# Altium footprint library CCD_CAM_BOARD_PCB_v3.PcbLib: 39 footprints (part 1 of 3)
Each footprint in its own frame and in the unit in brackets; x right, y up, seen from the top. Pads: shape width x height; smd on the part's side, far side on the other; paste and mask are expansions set on the pad; w line width, h text height; cw(c..) or ccw(c..) is an arc to the next point about the centre after c.
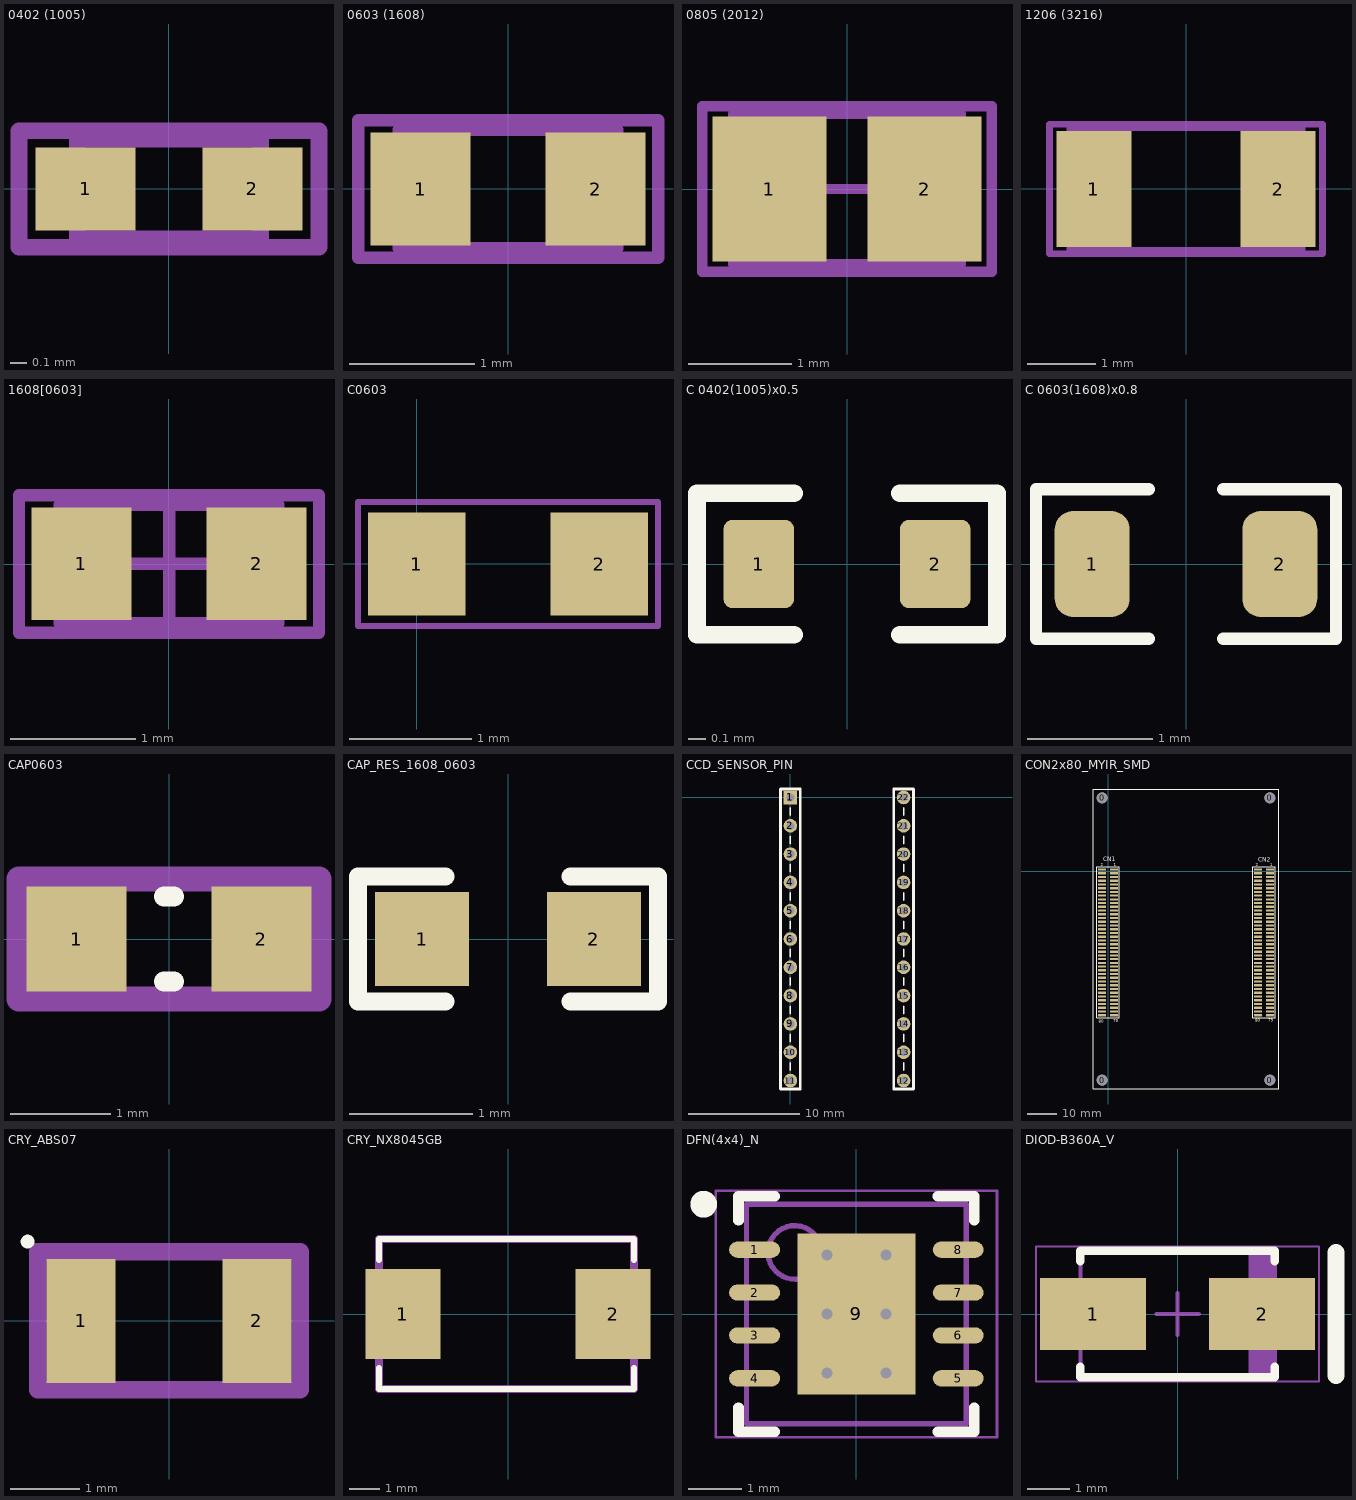
[diagram p0: the footprints below, top view; thin cyan lines are the x and y axes]

## 0402 (1005) [mm] "Chip  Body 1.0x0.5mm, IPC High Density"
height 0.35
pads (2):
  rect 0.6x0.5 smd: 1(-0.5,0) 2(0.5,0)
Mechanical 13:
  lines w0.1: -0.55,-0.3 0.55,-0.3 0.55,0.3 -0.55,0.3 -0.55,-0.3
Mechanical 15:
  lines w0.1: -0.9,-0.35 0.9,-0.35 0.9,0.35 -0.9,0.35 -0.9,-0.35
3D body: height 0.35, standoff 0, extent -0.55,-0.3 0.55,0.3

## 0603 (1608) [mm] "Chip  Body 1.6x0.8mm, IPC High Density"
height 0.45
pads (2):
  rect 0.8x0.9 smd: 1(-0.7,0) 2(0.7,0)
Mechanical 13:
  lines w0.1: -0.875,-0.475 0.875,-0.475 0.875,0.475 -0.875,0.475 -0.875,-0.475
Mechanical 15:
  lines w0.1: -1.2,-0.55 1.2,-0.55 1.2,0.55 -1.2,0.55 -1.2,-0.55
3D body: height 0.45, standoff 0, extent -0.887,-0.475 0.888,0.475

## 0805 (2012) [mm] "Chip, Body 2.0x1.3mm, IPC High Density"
height 0.45
pads (2):
  rect 1.1x1.4 smd: 1(-0.75,0) 2(0.75,0)
Mechanical 13:
  lines w0.1: -1.1,-0.725 1.1,-0.725 1.1,0.725 -1.1,0.725 -1.1,-0.725
Mechanical 15:
  lines w0.1: -0.5,0 0.5,0 ; -1.4,-0.8 1.4,-0.8 1.4,0.8 -1.4,0.8 -1.4,-0.8
3D body: height 0.45, standoff 0, extent -1.1,-0.725 1.1,0.725

## 1206 (3216) [mm] "Chip Capacitor, Body 3.2x1.6mm, IPC High Density"
height 0.55
pads (2):
  rect 1.1x1.7 smd: 1(-1.35,0) 2(1.35,0)
Mechanical 13:
  lines w0.1: -1.7,-0.9 -1.7,0.9 1.7,0.9 1.7,-0.9 -1.7,-0.9
Mechanical 15:
  lines w0.1: -2,-0.95 -2,0.95 2,0.95 2,-0.95 -2,-0.95
3D body: height 0.45, standoff 0, extent -1.7,-0.9 1.7,0.9

## 1608[0603] [mm] "Chip Capacitor, Body 1.6x0.8mm, IPC High Density"
height 1.3
pads (2):
  rect 0.8x0.9 smd: 1(-0.7,0) 2(0.7,0)
Mechanical 13:
  lines w0.1: -0.875,-0.475 0.875,-0.475 0.875,0.475 -0.875,0.475 -0.875,-0.475
Mechanical 15:
  lines w0.1: -0.475,0 0.475,0 ; 0,-0.475 0,0.475 ; -1.2,-0.55 1.2,-0.55 1.2,0.55 -1.2,0.55 -1.2,-0.55
3D body: height 1.3, standoff 0, extent -0.875,-0.475 0.875,0.475

## C0603 [mm]
height 0.9
pads (2):
  rect 0.8x0.85 smd: 1(0,0) 2(1.5,0)
Mechanical 13:
  lines w0.05: -0.483,-0.508 -0.483,0.508 1.981,0.508 1.981,-0.508 -0.483,-0.508
3D body "CAPC-0603-T0.9-BN.stp": height 0.9, standoff 0, extent -0.088,-0.45 1.612,0.45

## C 0402(1005)x0.5 [mm]
height 0.5
pads (2):
  rrect25% 0.4x0.5 smd mask+0.102: 1(-0.5,0) 2(0.5,0)
Top Overlay:
  lines w0.1: -0.3,-0.4 -0.85,-0.4 -0.85,0.4 -0.3,0.4 ; 0.3,-0.4 0.85,-0.4 0.85,0.4 0.3,0.4
3D body "Cap 0402(1005)x50N.STEP": height 0.51, standoff 0, extent -0.5,-0.25 0.5,0.25

## C 0603(1608)x0.8 [mm]
height 0.8
pads (2):
  rrect50% 0.6x0.85 smd: 1(-0.75,0) 2(0.75,0)
Top Overlay:
  lines w0.1: -0.3,-0.6 -1.2,-0.6 -1.2,0.6 -0.3,0.6 ; 0.3,-0.6 1.2,-0.6 1.2,0.6 0.3,0.6
3D body "Cap 0603(1608)x80N.STEP": height 0.81, standoff 0, extent -0.8,-0.4 0.8,0.4

## CAP0603 [mm] "CAPACITOR 0603"
height 0.8
pads (2):
  rect 1x1.05 smd: 1(-0.925,0) 2(0.925,0)
Top Overlay:
  lines w0.2: -0.05,-0.425 0.05,-0.425 ; -0.05,0.425 0.05,0.425
Top Designator:
  lines w0.254: -1.5,-0.6 1.5,-0.6 1.5,0.6 -1.5,0.6 -1.5,-0.6
  text "'.Designator'" at -4.317,-0.317 h0.76
3D body "CAP0603.step": height 0.8, standoff 0, extent -0.8,-0.4 0.8,0.4

## CAP_RES_1608_0603 [mil]
height 15.75
pads (2):
  rect 30x30 smd: 1(-27.5,0) 2(27.5,0)
Top Overlay:
  lines w5.91: -20,-20 -48,-20 -48,20 -20,20 ; 20,-20 48,-20 48,20 20,20

## CCD_SENSOR_PIN [mil]
height 389.76
pads (22):
  rect 48x48 hole 28 mask+0: 1(0,0)
  round 48 hole 28 mask+0: 2(0,-100) 3(0,-200) 4(0,-300) 5(0,-400) 6(0,-500) 7(0,-600) 8(0,-700) 9(0,-800) 10(0,-900) 11(0,-1000) 12(400,-1000) 13(400,-900) 14(400,-800) 15(400,-700) 16(400,-600) 17(400,-500) 18(400,-400) 19(400,-300) 20(400,-200) 21(400,-100) 22(400,0)
Top Overlay:
  lines w6: -1,-962.91 -1,-937.09 ; -1,-862.91 -1,-837.09 ; -1,-762.91 -1,-737.09 ; -1,-662.91 -1,-637.09 ; -1,-562.91 -1,-537.09 ; -1,-462.91 -1,-437.09 ; -1,-362.91 -1,-337.09 ; -1,-262.91 -1,-237.09 ; -1,-162.91 -1,-137.09 ; -1,-62.91 -1,-37.1 ; 401,-962.91 401,-937.09 ; 401,-862.91 401,-837.09 ; 401,-762.91 401,-737.09 ; 401,-662.91 401,-637.09 ; 401,-562.91 401,-537.09 ; 401,-462.91 401,-437.09 ; 401,-362.91 401,-337.09 ; 401,-262.91 401,-237.09 ; 401,-162.91 401,-137.09 ; 401,-62.91 401,-37.09
  lines w10: -35,-1030 -35,30 35,30 35,-1030 -35,-1030 ; 365,-1030 435,-1030 435,30 365,30 365,-1030
Mechanical 13:
  lines w1: -14,-1014 4,-1014 4,-986 -14,-986 -14,-1014 ; -14,-914 4,-914 4,-886 -14,-886 -14,-914 ; -14,-814 4,-814 4,-786 -14,-786 -14,-814 ; -14,-714 4,-714 4,-686 -14,-686 -14,-714 ; -14,-614 4,-614 4,-586 -14,-586 -14,-614 ; -14,-514 4,-514 4,-486 -14,-486 -14,-514 ; -14,-414 4,-414 4,-386 -14,-386 -14,-414 ; -14,-314 4,-314 4,-286 -14,-286 -14,-314 ; -14,-214 4,-214 4,-186 -14,-186 -14,-214 ; -14,-114 4,-114 4,-86 -14,-86 -14,-114 ; -14,-14 4,-14 4,14 -14,14 -14,-14 ; 396,-1014 414,-1014 414,-986 396,-986 396,-1014 ; 396,-914 414,-914 414,-886 396,-886 396,-914 ; 396,-814 414,-814 414,-786 396,-786 396,-814 ; 396,-714 414,-714 414,-686 396,-686 396,-714 ; 396,-614 414,-614 414,-586 396,-586 396,-614 ; 396,-514 414,-514 414,-486 396,-486 396,-514 ; 396,-414 414,-414 414,-386 396,-386 396,-414 ; 396,-314 414,-314 414,-286 396,-286 396,-314 ; 396,-214 414,-214 414,-186 396,-186 396,-214 ; 396,-114 414,-114 414,-86 396,-86 396,-114 ; 396,-14 414,-14 414,14 396,14 396,-14
3D body "SL-111-G-11.stp": height 131.15, standoff -108.85, extent 350,-1050 450,50
3D body "SL-111-G-11.stp": height 131.15, standoff -108.85, extent -50,-1050 50,50
3D body: height 10, standoff 0, extent 0,0 10,10

## CON2x80_MYIR_SMD [mm]
pads (164):
  round 3.7 hole 3.7: 0(-2,-71) 0(-2,25) 0(55,-71) 0(55,25)
  rect 2.79x0.74 smd: A1(2.032,0.635) A2(-2.032,0.635) A3(2.032,-0.635) A4(-2.032,-0.635) A5(2.032,-1.905) A6(-2.032,-1.905) A7(2.032,-3.175) A8(-2.032,-3.175) A9(2.032,-4.445) A10(-2.032,-4.445) A11(2.032,-5.715) A12(-2.032,-5.715) A13(2.032,-6.985) A14(-2.032,-6.985) A15(2.032,-8.255) A16(-2.032,-8.255) A17(2.032,-9.525) A18(-2.032,-9.525) A19(2.032,-10.795) A20(-2.032,-10.795) A21(2.032,-12.065) A22(-2.032,-12.065) A23(2.032,-13.335) A24(-2.032,-13.335) A25(2.032,-14.605) A26(-2.032,-14.605) A27(2.032,-15.875) A28(-2.032,-15.875) A29(2.032,-17.145) A30(-2.032,-17.145) A31(2.032,-18.415) A32(-2.032,-18.415) A33(2.032,-19.685) A34(-2.032,-19.685) A35(2.032,-20.955) A36(-2.032,-20.955) A37(2.032,-22.225) A38(-2.032,-22.225) A39(2.032,-23.495) A40(-2.032,-23.495) A41(2.032,-24.765) A42(-2.032,-24.765) A43(2.032,-26.035) A44(-2.032,-26.035) A45(2.032,-27.305) A46(-2.032,-27.305) A47(2.032,-28.575) A48(-2.032,-28.575) A49(2.032,-29.845) A50(-2.032,-29.845) A51(2.032,-31.115) A52(-2.032,-31.115) A53(2.032,-32.385) A54(-2.032,-32.385) A55(2.032,-33.655) A56(-2.032,-33.655) A57(2.032,-34.925) A58(-2.032,-34.925) A59(2.032,-36.195) A60(-2.032,-36.195) A61(2.032,-37.465) A62(-2.032,-37.465) A63(2.032,-38.735) A64(-2.032,-38.735) A65(2.032,-40.005) A66(-2.032,-40.005) A67(2.032,-41.275) A68(-2.032,-41.275) A69(2.032,-42.545) A70(-2.032,-42.545) A71(2.032,-43.815) A72(-2.032,-43.815) A73(2.032,-45.085) A74(-2.032,-45.085) A75(2.032,-46.355) A76(-2.032,-46.355) A77(2.032,-47.625) A78(-2.032,-47.625) A79(2.032,-48.895) A80(-2.032,-48.895) B1(55.032,0.635) B2(50.968,0.635) B3(55.032,-0.635) B4(50.968,-0.635) B5(55.032,-1.905) B6(50.968,-1.905) B7(55.032,-3.175) B8(50.968,-3.175) B9(55.032,-4.445) B10(50.968,-4.445) B11(55.032,-5.715) B12(50.968,-5.715) B13(55.032,-6.985) B14(50.968,-6.985) B15(55.032,-8.255) B16(50.968,-8.255) B17(55.032,-9.525) B18(50.968,-9.525) B19(55.032,-10.795) B20(50.968,-10.795) B21(55.032,-12.065) B22(50.968,-12.065) B23(55.032,-13.335) B24(50.968,-13.335) B25(55.032,-14.605) B26(50.968,-14.605) B27(55.032,-15.875) B28(50.968,-15.875) B29(55.032,-17.145) B30(50.968,-17.145) B31(55.032,-18.415) B32(50.968,-18.415) B33(55.032,-19.685) B34(50.968,-19.685) B35(55.032,-20.955) B36(50.968,-20.955) B37(55.032,-22.225) B38(50.968,-22.225) B39(55.032,-23.495) B40(50.968,-23.495) B41(55.032,-24.765) B42(50.968,-24.765) B43(55.032,-26.035) B44(50.968,-26.035) B45(55.032,-27.305) B46(50.968,-27.305) B47(55.032,-28.575) B48(50.968,-28.575) B49(55.032,-29.845) B50(50.968,-29.845) B51(55.032,-31.115) B52(50.968,-31.115) B53(55.032,-32.385) B54(50.968,-32.385) B55(55.032,-33.655) B56(50.968,-33.655) B57(55.032,-34.925) B58(50.968,-34.925) B59(55.032,-36.195) B60(50.968,-36.195) B61(55.032,-37.465) B62(50.968,-37.465) B63(55.032,-38.735) B64(50.968,-38.735) B65(55.032,-40.005) B66(50.968,-40.005) B67(55.032,-41.275) B68(50.968,-41.275) B69(55.032,-42.545) B70(50.968,-42.545) B71(55.032,-43.815) B72(50.968,-43.815) B73(55.032,-45.085) B74(50.968,-45.085) B75(55.032,-46.355) B76(50.968,-46.355) B77(55.032,-47.625) B78(50.968,-47.625) B79(55.032,-48.895) B80(50.968,-48.895)
Top Overlay:
  lines w0.2: -3.81,-49.784 3.81,-49.784 3.81,1.535 -3.81,1.535 -3.81,-49.784 ; 49.149,-49.784 49.149,1.535 56.896,1.535 56.896,-49.784 49.149,-49.784
  lines w0.254: -5,-74 -5,28 58,28 58,-74 -5,-74
  text "80" at 50.038,-51.181 h1
  text "2" at 50.165,1.778 h1
  text "1" at 55.118,1.778 h1
  text "79" at 54.483,-51.181 h1
  text "79" at 1.778,-51.308 h1
  text "1" at 1.905,1.778 h1
  text "CN1" at -1.651,3.429 h1.52
  text "CN2" at 51.054,3.302 h1.52
  text "2" at -2.54,1.778 h1
  text "80" at -3.175,-51.435 h1
3D body "20021321-1080xxlfc.stp": height 4.5, standoff 0, extent 50.709,-49.784 55.209,1.476
3D body "20021321-1080xxlfc.stp": height 4.5, standoff 0, extent -2.25,-49.76 2.25,1.5

## CRY_ABS07 [mm] "0.126\" L x 0.059\" W (3.20mm x 1.50mm)"
height 0.9
pads (2):
  rect 1x1.8 smd: 1(-1.275,0) 2(1.275,0)
Top Overlay:
  circle w0.1: c-2.05,1.15 r0.05
Top Designator:
  lines w0.254: -1.9,-1 -1.9,1 1.9,1 1.9,-1 -1.9,-1
  text ".Designator" at -3.809,-0.254 h0.76
3D body "User Library-ABS07.STEP": height 0.91, standoff 0, extent -1.61,-0.76 1.61,0.76

## CRY_NX8045GB [mm] "0.315\" L x 0.177\" W (8.00mm x 4.50mm)"
height 2
pads (2):
  rect 2.5x3 smd: 1(-3.5,0) 2(3.5,0)
Top Overlay:
  lines w0.2: -4.3,-1.8 -4.3,-2.5 4.2,-2.5 4.2,-1.8 ; -4.3,1.8 -4.3,2.5 4.2,2.5 4.2,1.8
Top Designator:
  lines w0.254: -4.3,-2.5 4.2,-2.5 4.2,2.5 -4.3,2.5 -4.3,-2.5
  text ".Designator" at -7.618,-0.508 h1.52
3D body "SW3dPS-cry_8045.STEP": height 1.8, standoff 0, extent -4,-2.25 4,2.25

## DFN(4x4)_N [mm] "SON, 8-Leads, Body 4x4mm, Pitch 0.8mm, Thermal Pad 3x2.2mm, IPC Medium Density"
height 1
pads (9):
  oval 0.95x0.3 smd: 1(-1.9,1.2) 2(-1.9,0.4) 3(-1.9,-0.4) 4(-1.9,-1.2) 5(1.9,-1.2) 6(1.9,-0.4) 7(1.9,0.4) 8(1.9,1.2)
  rect 2.2x3 smd: 9(0,0)
via -0.55,1.1 diameter 0.5 hole 0.203
via 0.55,1.1 diameter 0.5 hole 0.203
via -0.55,0 diameter 0.5 hole 0.203
via 0.55,0 diameter 0.5 hole 0.203
via -0.55,-1.1 diameter 0.5 hole 0.203
via 0.55,-1.1 diameter 0.5 hole 0.203
Top Overlay:
  circle w0.25: c-2.85,2.05 r0.125
  lines w0.2: -2.2,-1.75 -2.2,-2.2 -1.525,-2.2 ; -2.2,1.75 -2.2,2.2 -1.525,2.2 ; 1.525,-2.2 2.2,-2.2 2.2,-1.75 ; 1.525,2.2 2.2,2.2 2.2,1.75
Mechanical 13:
  circle w0.1: c-1.15,1.15 r0.5
  lines w0.1: -2.05,-2.05 -2.05,2.05 2.05,2.05 2.05,-2.05 -2.05,-2.05
Mechanical 15:
  lines w0.05: -2.625,-2.3 -2.625,2.3 2.625,2.3 2.625,-2.3 -2.625,-2.3
  lines w0.1: -0.5,0 0.5,0 ; 0,-0.5 0,0.5
3D body: height 1, standoff 0, extent -2.05,-2.05 2.05,2.05

## DIOD-B360A_V [mm] "Molded Diode, 2-Leads, Body 4.60x2.92mm"
height 2.3
pads (2):
  rect 2.5x1.7 smd: 1(-2,0) 2(2,0)
Top Overlay:
  lines w0.2: -2.3,-1.25 -2.3,-1.5 2.3,-1.5 2.3,-1.25 ; -2.3,1.25 -2.3,1.5 2.3,1.5 2.3,1.25
  lines w0.4: 3.75,-1.46 3.75,1.46
Mechanical 13:
  rectangle: 1.681,-1.46 2.3,1.46
  lines w0.1: -2.3,-1.46 -2.3,1.46 2.3,1.46 2.3,-1.46 -2.3,-1.46
Mechanical 15:
  lines w0.05: -3.35,-1.6 -3.35,1.6 3.35,1.6 3.35,-1.6 -3.35,-1.6
  lines w0.1: -0.5,0 0.5,0 ; 0,-0.5 0,0.5
3D body "DIOM4326X23L.step": height 2.3, standoff 0, extent -2.52,-1.46 2.52,1.46